# Altium footprint library HD3SS.PcbLib: 1 footprints
Each footprint in its own frame and in the unit in brackets; x right, y up, seen from the top. Pads: shape width x height; smd on the part's side, far side on the other; paste and mask are expansions set on the pad; w line width, h text height; cw(c..) or ccw(c..) is an arc to the next point about the centre after c.
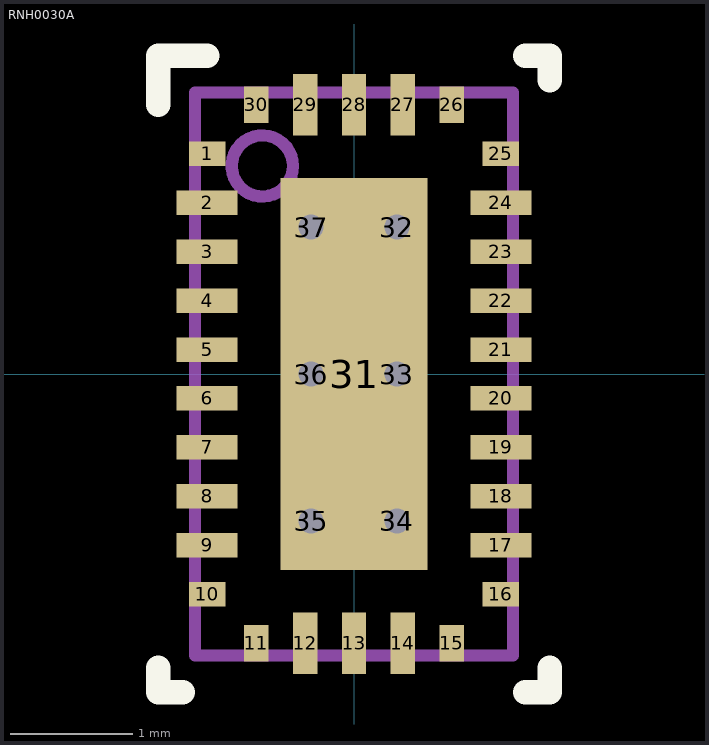
[diagram p0: the footprint, top view; thin cyan lines are the x and y axes]

## RNH0030A [mm]
pads (37):
  rect 0.3x0.2 smd: 1(-1.2,1.8) 10(-1.2,-1.8) 16(1.2,-1.8) 25(1.2,1.8)
  rect 0.5x0.2 smd: 2(-1.2,1.4) 3(-1.2,1) 4(-1.2,0.6) 5(-1.2,0.2) 6(-1.2,-0.2) 7(-1.2,-0.6) 8(-1.2,-1) 9(-1.2,-1.4) 17(1.2,-1.4) 18(1.2,-1) 19(1.2,-0.6) 20(1.2,-0.2) 21(1.2,0.2) 22(1.2,0.6) 23(1.2,1) 24(1.2,1.4)
  rect 0.2x0.3 smd: 11(-0.8,-2.2) 15(0.8,-2.2) 26(0.8,2.2) 30(-0.8,2.2)
  rect 0.2x0.5 smd: 12(-0.4,-2.2) 13(0,-2.2) 14(0.4,-2.2) 27(0.4,2.2) 28(0,2.2) 29(-0.4,2.2)
  rect 1.2x3.2 smd: 31(0,0)
  round 0.35 hole 0.203 mask-25.4: 32(0.35,1.2) 33(0.35,0) 34(0.35,-1.2) 35(-0.35,-1.2) 36(-0.35,0) 37(-0.35,1.2)
Top Overlay:
  lines w0.2: -1.6,-2.4 -1.6,-2.6 -1.4,-2.6 ; -1.6,2.2 -1.6,2.6 -1.2,2.6 ; 1.4,-2.6 1.6,-2.6 1.6,-2.4 ; 1.4,2.6 1.6,2.6 1.6,2.4
Top Solder:
  region: 0.35,1.455 0.252,1.435 0.17,1.38 0.115,1.298 0.095,1.2 0.115,1.102 0.17,1.02 0.252,0.965 0.35,0.945 0.448,0.965 0.53,1.02 0.585,1.102 0.605,1.2 0.585,1.298 0.53,1.38 0.448,1.435
  region: 0.35,0.255 0.252,0.235 0.17,0.18 0.115,0.098 0.095,0 0.115,-0.098 0.17,-0.18 0.252,-0.235 0.35,-0.255 0.448,-0.235 0.53,-0.18 0.585,-0.098 0.605,0 0.585,0.098 0.53,0.18 0.448,0.235
  region: 0.35,-0.945 0.252,-0.965 0.17,-1.02 0.115,-1.102 0.095,-1.2 0.115,-1.298 0.17,-1.38 0.252,-1.435 0.35,-1.455 0.448,-1.435 0.53,-1.38 0.585,-1.298 0.605,-1.2 0.585,-1.102 0.53,-1.02 0.448,-0.965
  region: -0.35,-0.945 -0.448,-0.965 -0.53,-1.02 -0.585,-1.102 -0.605,-1.2 -0.585,-1.298 -0.53,-1.38 -0.448,-1.435 -0.35,-1.455 -0.252,-1.435 -0.17,-1.38 -0.115,-1.298 -0.095,-1.2 -0.115,-1.102 -0.17,-1.02 -0.252,-0.965
  region: -0.35,0.255 -0.448,0.235 -0.53,0.18 -0.585,0.098 -0.605,0 -0.585,-0.098 -0.53,-0.18 -0.448,-0.235 -0.35,-0.255 -0.252,-0.235 -0.17,-0.18 -0.115,-0.098 -0.095,0 -0.115,0.098 -0.17,0.18 -0.252,0.235
  region: -0.35,1.455 -0.448,1.435 -0.53,1.38 -0.585,1.298 -0.605,1.2 -0.585,1.102 -0.53,1.02 -0.448,0.965 -0.35,0.945 -0.252,0.965 -0.17,1.02 -0.115,1.102 -0.095,1.2 -0.115,1.298 -0.17,1.38 -0.252,1.435
Bottom Solder:
  region: 0.35,1.455 0.252,1.435 0.17,1.38 0.115,1.298 0.095,1.2 0.115,1.102 0.17,1.02 0.252,0.965 0.35,0.945 0.448,0.965 0.53,1.02 0.585,1.102 0.605,1.2 0.585,1.298 0.53,1.38 0.448,1.435
  region: 0.35,0.255 0.252,0.235 0.17,0.18 0.115,0.098 0.095,0 0.115,-0.098 0.17,-0.18 0.252,-0.235 0.35,-0.255 0.448,-0.235 0.53,-0.18 0.585,-0.098 0.605,0 0.585,0.098 0.53,0.18 0.448,0.235
  region: 0.35,-0.945 0.252,-0.965 0.17,-1.02 0.115,-1.102 0.095,-1.2 0.115,-1.298 0.17,-1.38 0.252,-1.435 0.35,-1.455 0.448,-1.435 0.53,-1.38 0.585,-1.298 0.605,-1.2 0.585,-1.102 0.53,-1.02 0.448,-0.965
  region: -0.35,-0.945 -0.448,-0.965 -0.53,-1.02 -0.585,-1.102 -0.605,-1.2 -0.585,-1.298 -0.53,-1.38 -0.448,-1.435 -0.35,-1.455 -0.252,-1.435 -0.17,-1.38 -0.115,-1.298 -0.095,-1.2 -0.115,-1.102 -0.17,-1.02 -0.252,-0.965
  region: -0.35,0.255 -0.448,0.235 -0.53,0.18 -0.585,0.098 -0.605,0 -0.585,-0.098 -0.53,-0.18 -0.448,-0.235 -0.35,-0.255 -0.252,-0.235 -0.17,-0.18 -0.115,-0.098 -0.095,0 -0.115,0.098 -0.17,0.18 -0.252,0.235
  region: -0.35,1.455 -0.448,1.435 -0.53,1.38 -0.585,1.298 -0.605,1.2 -0.585,1.102 -0.53,1.02 -0.448,0.965 -0.35,0.945 -0.252,0.965 -0.17,1.02 -0.115,1.102 -0.095,1.2 -0.115,1.298 -0.17,1.38 -0.252,1.435
Outline:
  circle w0.1: c-0.749,1.7 r0.25
  lines w0.1: -1.3,-2.3 1.3,-2.3 1.3,2.3 -1.3,2.3 -1.3,-2.3
Courtyard Bottom:
  circle w0.1: c-0.749,1.7 r0.25
  lines w0.1: -1.3,-2.3 1.3,-2.3 1.3,2.3 -1.3,2.3 -1.3,-2.3
3D body: height 0.8, standoff 0, extent -1.25,-2.25 1.25,2.25